# Altium schematic symbol library WPME-CDI2C.SchLib: 2 symbols
Pins are listed as number, name and electrical type; pins without a type are passive.

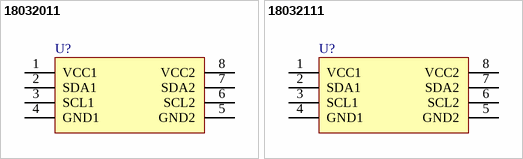
[diagram p0: symbols 18032011 to 18032111]

## 18032011
designator U?, comment 2B/0U, 3750V  (value not drawn)
WPME-CDI2C Capacitive Digital Isolator, SMT, SOIC-8NB, 2B/0U, 3750V; Manufacturer Part Number: 18032011; Manufacturer: Wurth Elektronik; Common Mode Transient Immunity: 150kV/us; Isolation Voltage: 3750V (RMS); Operating Supply Voltage Min: 3V; Operating Supply Voltage Max: 5.5V; Type of Insulation: Basic; Maximum Clock Frequency: 2MHz; Category: Digital Isolator; Match Code: WPME-CDI2C; ComponentLink1Description: Website Link; ComponentLink1URL: https://www.we-online.com; ComponentLink2Description: Datasheet Link; ComponentLink2URL: https://www.we-online.com/components/products/datasheet/18032011; Mount: Surface Mount; Operating Temperature Min: -40degC; Operating Temperature Max: 125degC; Packaging: Tape and Reel; Case/Size Code: SOIC-8NB; Length: 4.9mm; Width: 6mm; Height: 1.8mm; Channel Configuration: 2B/0U
footprint SOIC-8NB_18032x11
pins: 1 VCC1, 2 SDA1, 3 SCL1, 4 GND1, 5 GND2, 6 SCL2, 7 SDA2, 8 VCC2

## 18032111
designator U?, comment 1B/1U, 3750V  (value not drawn)
WPME-CDI2C Capacitive Digital Isolator, SMT, SOIC-8NB, 1B/1U, 3750V; Manufacturer Part Number: 18032111; Manufacturer: Wurth Elektronik; Common Mode Transient Immunity: 150kV/us; Isolation Voltage: 3750V (RMS); Operating Supply Voltage Min: 3V; Operating Supply Voltage Max: 5.5V; Type of Insulation: Basic; Maximum Clock Frequency: 2MHz; Category: Digital Isolator; Match Code: WPME-CDI2C; ComponentLink1Description: Website Link; ComponentLink1URL: https://www.we-online.com; ComponentLink2Description: Datasheet Link; ComponentLink2URL: https://www.we-online.com/components/products/datasheet/18032111; Mount: Surface Mount; Operating Temperature Min: -40degC; Operating Temperature Max: 125degC; Packaging: Tape and Reel; Case/Size Code: SOIC-8NB; Length: 4.9mm; Width: 6mm; Height: 1.8mm; Channel Configuration: 1B/1U
footprint SOIC-8NB_18032x11
pins: 1 VCC1, 2 SDA1, 3 SCL1, 4 GND1, 5 GND2, 6 SCL2, 7 SDA2, 8 VCC2